# EAGLE library part WE-PPTM_1212TB (library Wurth_Power Magnetics_WE-PPTM)
WE-PPTM Push-Pull Tiny Multi-Output Transformers Characteristics Small size Surface mount Through the board options Low profile Operating temp: -40°C to 125°C Multiple outputs Functional insulation Applications Isolated interface power supply for CAN, RS-485, RS-422, RS-232, SPI, I2C, lower-power LAN Industrial automation Process control Medical equipment PLC analog and digital I/O modules Isolated gate driver power supplies AC motor drives Uninterruptible power supplies (UPS) Solar inverters Polyphase energy meters Protection relays and IEDs <https://www.we-online.com/components/media/o765174v209%20Family-MID-PPTI-SN6505B-750316668.jpg> Details see: www.we-online.com/en/components/products/WE-PPTM <www.we-online.com/catalog/WE-PPTM/?utm_source=eagle_model&utm_medium=description_link&utm_campaign=eisos_eagle> Updated by Ella Wu 2024-01-31 2024 (C) Wurth Elektronik
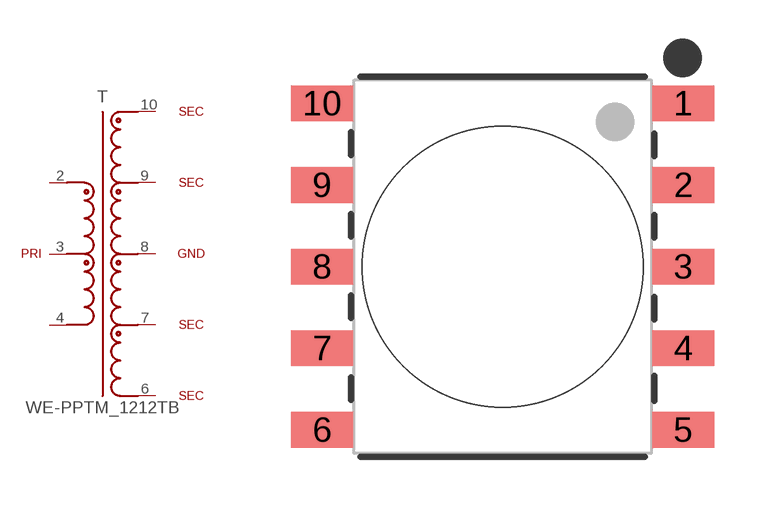
[diagram p1: symbol with the pads of WE-PPTM_1212TB_L12.6W11.63H3.99; footprint WE-PPTM_1212TB_L12.6W11.63H3.99]

Designator prefix T

## WE-PPTM_1212TB_750316668_L12.6W11.63H3.99 (DATASHEET-URL: https://www.we-online.com/redexpert/spec/750316668?ae; FSWITCH: 400kHz; HEIGHT: 1.98mm; IOUT1: 100mA; IOUT2: 200mA; IOUT3: 200mA; IOUT4: 95mA; L: 60uH; LENGTH: 12.6mm; MOUNT: SMT; N: 1:2.57:1.14; PART-NUMBER: 750316668; SIZE: 1212TB; TYPE-OF-INSULATION: Functional; VALUE: 750316668; VIN: 5 V (DC); VOLTAGE-TIME: 8.9Vus; VOUT1: 12.85V; VOUT2: 5.7V; VOUT3: -5.7V; VOUT4: -12.85V; VT: 3125 V(AC); WIDTH: 11.63mm), WE-PPTM_1212TB_750316669_L12.6W11.63H3.99 (DATASHEET-URL: https://www.we-online.com/redexpert/spec/750316669?ae; FSWITCH: 400kHz; HEIGHT: 1.98mm; IOUT1: 100mA; IOUT2: 200mA; IOUT3: 200mA; IOUT4: 95mA; L: 60uH; LENGTH: 12.6mm; MOUNT: SMT; N: 1.17:3:1; PART-NUMBER: 750316669; SIZE: 1212TB; TYPE-OF-INSULATION: Functional; VALUE: 750316669; VIN: 5 V (DC); VOLTAGE-TIME: 8.9Vus; VOUT1: 12.85V; VOUT2: 4.27V; VOUT3: -4.27V; VOUT4: -12.85V; VT: 3125 V(AC); WIDTH: 11.63mm), WE-PPTM_1212TB_750316670_L12.6W11.63H3.99 (DATASHEET-URL: https://www.we-online.com/redexpert/spec/750316670?ae; FSWITCH: 400kHz; HEIGHT: 1.98mm; IOUT1: 85mA; IOUT2: 200mA; IOUT3: 200mA; IOUT4: 85mA; L: 60uH; LENGTH: 12.6mm; MOUNT: SMT; N: 1:3.14:1.14; PART-NUMBER: 750316670; SIZE: 1212TB; TYPE-OF-INSULATION: Functional; VALUE: 750316670; VIN: 5 V (DC); VOLTAGE-TIME: 8.9Vus; VOUT1: 15.7V; VOUT2: 5.7V; VOUT3: -5.7V; VOUT4: -15.7V; VT: 3125 V(AC); WIDTH: 11.63mm), WE-PPTM_1212TB_750316671_L12.6W11.63H3.99 (DATASHEET-URL: https://www.we-online.com/redexpert/spec/750316671?ae; FSWITCH: 400kHz; HEIGHT: 1.98mm; IOUT1: 100mA; IOUT2: 200mA; IOUT3: 200mA; IOUT4: 95mA; L: 60uH; LENGTH: 12.6mm; MOUNT: SMT; N: 1.17:3.67:1; PART-NUMBER: 750316671; SIZE: 1212TB; TYPE-OF-INSULATION: Functional; VALUE: 750316671; VIN: 5 V (DC); VOLTAGE-TIME: 8.9Vus; VOUT1: 15.7V; VOUT2: 4.27V; VOUT3: -4.27V; VOUT4: -15.7V; VT: 3125 V(AC); WIDTH: 11.63mm)  [WE-PPTM_1212TB_L12.6W11.63H3.99]
2  2  pas
3  3  pas
4  4  pas
6  6  pas
7  7  pas
8  8  pas
9  9  pas
10  10  pas

## Footprint WE-PPTM_1212TB_L12.6W11.63H3.99 (pad centres in mm)
WE-PPTM Push-Pull Tiny Multi-Output Transformers Size: 1212, SMT, 10pins LXWXH=12.6X11.63X1.98mm
smd 1.93 x 1.11: 1 5.62,5.08; 2 5.62,2.54; 3 5.62,0; 4 5.62,-2.54; 5 5.62,-5.08; 6 -5.62,-5.08; 7 -5.62,-2.54; 8 -5.62,0; 9 -5.62,2.54; 10 -5.62,5.08
hole 8.73 at 0,0